# EAGLE library part AD1865 (library toslink)
Complete Dual 18-Bit 16xFS Audio DAC
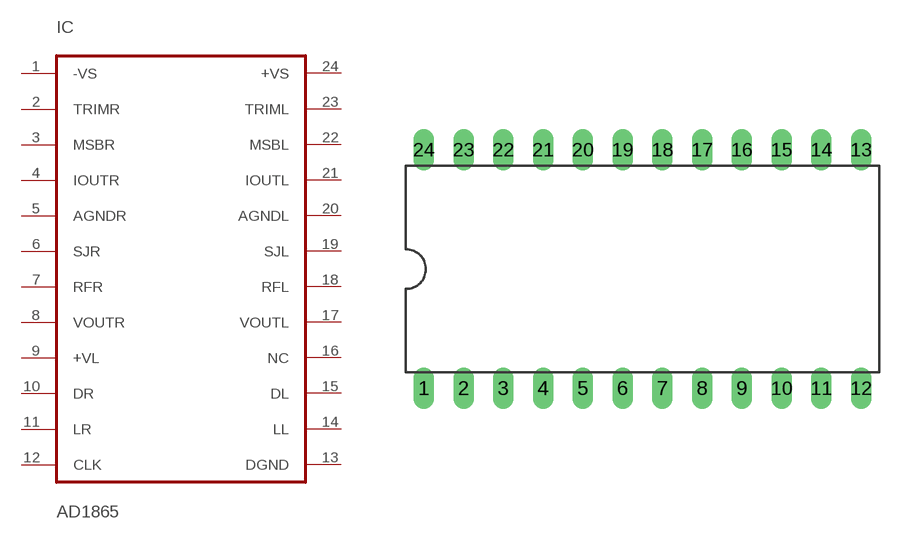
[diagram p5: symbol with the pads of DIL24-6; footprint DIL24-6]

Designator prefix IC

## AD1865  [DIL24-6]
1  -VS  pwr
2  TRIMR
3  MSBR
4  IOUTR  out
5  AGNDR  pwr
6  SJR  in
7  RFR  out
8  VOUTR  out
9  +VL  pwr
10  DR  in
11  LR  in
12  CLK  in
13  DGND  pwr
14  LL  in
15  DL  in
16  NC  nc
17  VOUTL  out
18  RFL  out
19  SJL  in
20  AGNDL  pwr
21  IOUTL  out
22  MSBL
23  TRIML
24  +VS  pwr

## Footprint DIL24-6 (pad centres in mm)
Dual In Line Package 0.6 inch
drill 0.813 long: 1 -13.97,-7.62; 2 -11.43,-7.62; 3 -8.89,-7.62; 4 -6.35,-7.62; 5 -3.81,-7.62; 6 -1.27,-7.62; 7 1.27,-7.62; 8 3.81,-7.62; 9 6.35,-7.62; 10 8.89,-7.62; 11 11.43,-7.62; 12 13.97,-7.62; 13 13.97,7.62; 14 11.43,7.62; 15 8.89,7.62; 16 6.35,7.62; 17 3.81,7.62; 18 1.27,7.62; 19 -1.27,7.62; 20 -3.81,7.62; 21 -6.35,7.62; 22 -8.89,7.62; 23 -11.43,7.62; 24 -13.97,7.62